# Altium footprint library JP.PcbLib: 182 footprints (part 12 of 12)
Each footprint in its own frame and in the unit in brackets; x right, y up, seen from the top. Pads: shape width x height; smd on the part's side, far side on the other; paste and mask are expansions set on the pad; w line width, h text height; cw(c..) or ccw(c..) is an arc to the next point about the centre after c.
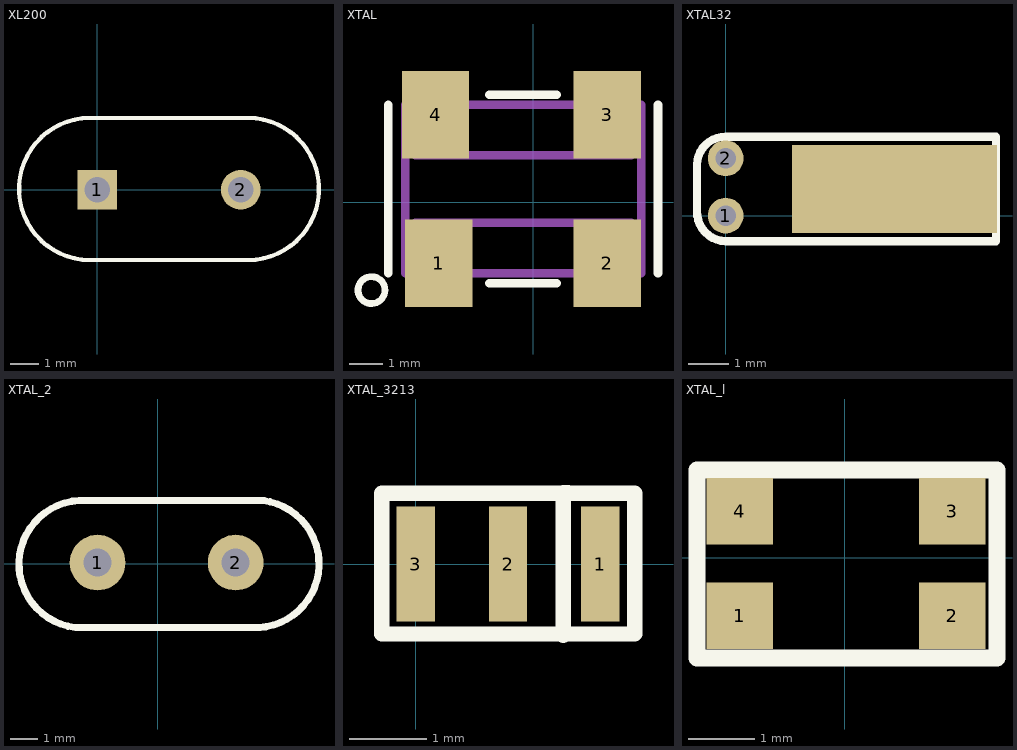
[diagram p11: the footprints below, top view; thin cyan lines are the x and y axes]

## XL200 [mil]
pads (2):
  rect 55x55 hole 35: 1(0,0)
  round 55 hole 35: 2(200,0)
Top Overlay:
  lines w6: -10,-97.99 cw(c-10,1) -10,100 210,100 cw(c210,1) 210,-97.99 -10,-97.99

## XTAL [mm]
pads (4):
  rect 2x2.6 smd: 1(-2.794,-1.808) 2(2.206,-1.808) 3(2.206,2.592) 4(-2.894,2.592)
Top Overlay:
  circle w0.2: c-4.794,-2.608 r0.4
  lines w0.254: -4.294,-2.108 -4.294,2.892 ; -1.294,-2.408 0.706,-2.408 ; -1.294,3.192 0.706,3.192 ; 3.706,-2.108 3.706,2.892
Mechanical 1:
  lines w0.254: -3.494,-2.108 -3.494,-0.908 -2.094,-0.908 -2.094,-2.108 ; -3.494,-0.608 2.906,-0.608 ; -3.494,1.392 2.906,1.392 ; -3.494,2.892 -3.494,1.692 -2.094,1.692 -2.094,2.892 ; 1.506,-2.108 1.506,-0.908 2.906,-0.908 2.906,-2.108 ; 1.506,2.892 1.506,1.692 2.906,1.692 2.906,2.892 ; -3.794,-2.108 3.206,-2.108 3.206,2.892 -3.794,2.892 -3.794,-2.108
3D body: height 1.5, standoff 0, extent -3.996,-3.21 3.308,3.994

## XTAL32 [mil]
pads (3):
  round 35 hole 20: 1(0,0) 2(0,56)
  rect 200x86 smd: ""(165,26)
Top Overlay:
  lines w8: -28,4 ccw(c0.5,3.5) 0,-25 264,-25 264,77 0,77 ccw(c-0.5,49.5) -28,50 -28,4
3D body: height 78.74, standoff 0, extent -32,-29 269,81

## XTAL_2 [mm]
pads (2):
  round 2 hole 1: 1(-2.157,0.035) 2(2.796,0.035)
Top Overlay:
  lines w0.25: -2.922,-2.289 3.682,-2.289 ; -2.815,2.266 3.84,2.266
  lines w0.254: -2.956,-2.294 cw(c-2.688,-0.02) -2.815,2.266 ; 3.625,-2.296 ccw(c3.498,-0.01) 3.766,2.264
3D body: height 2.5, standoff 0, extent -5.105,-2.423 5.915,2.393

## XTAL_3213 [mm]
pads (3):
  rect 0.5x1.5 smd: 1(2.4,0) 2(1.2,0) 3(0,0)
Top Overlay:
  lines w0.2: -0.31,0.92 2.79,0.92 2.85,0.92 2.85,0.3 2.85,-0.68 2.85,-0.91 -0.44,-0.91 -0.44,0.89 -0.44,0.92 -0.18,0.92 ; 1.92,-0.93 1.92,0.93 1.98,0.93

## XTAL_l [mm]
pads (4):
  rect 1x1 smd: 1(-1.58,-0.87) 2(1.62,-0.87) 3(1.62,0.7) 4(-1.58,0.7)
Top Overlay:
  lines w0.254: -2.22,-1.51 -2.22,1.32 2.29,1.32 2.29,-1.51 -2.22,-1.51
3D body: height 1.5, standoff 0, extent -2.182,-1.472 2.222,1.302